# EAGLE library part HEADER-12X1 (library Controller)
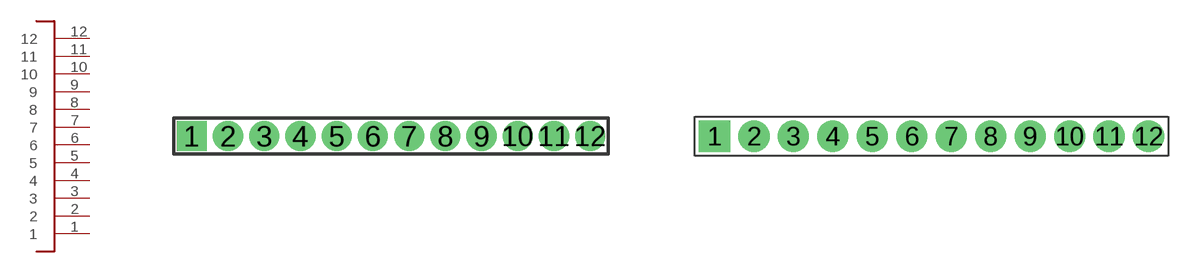
[diagram p15: symbol with the pads of HEADER-12X1-1.27; footprints HEADER-12X1-1.27, HEADER-12X1-2.54]

Designator prefix J

## HEADER-12X1-1.27  [HEADER-12X1-1.27]
1  1
2  2
3  3
4  4
5  5
6  6
7  7
8  8
9  9
10  10
11  11
12  12

## HEADER-12X1-2.54  [HEADER-12X1-2.54]
Pads as for HEADER-12X1-1.27

## HEADER-12X1-2.54-ROUND  [HEADER-12X1-2.54-ROUND]
Pads as for HEADER-12X1-1.27

## Footprint HEADER-12X1-1.27 (pad centres in mm)
5 pin 0.1" header
drill 0.55 square: 1 -6.985,0
drill 0.55: 2 -5.715,0; 3 -4.445,0; 4 -3.175,0; 5 -1.905,0; 6 -0.635,0; 7 0.635,0; 8 1.905,0; 9 3.175,0; 10 4.445,0; 11 5.715,0; 12 6.985,0

## Footprint HEADER-12X1-2.54 (pad centres in mm)
5 pin 0.1" header
drill 1.05 pad 2 square: 1 -13.97,0
drill 1.05 pad 2: 2 -11.43,0; 3 -8.89,0; 4 -6.35,0; 5 -3.81,0; 6 -1.27,0; 7 1.27,0; 8 3.81,0; 9 6.35,0; 10 8.89,0; 11 11.43,0; 12 13.97,0

## Footprint HEADER-12X1-2.54-ROUND (pad centres in mm)
5 pin 0.1" header
drill 1.05 pad 2: 1 -13.97,0; 2 -11.43,0; 3 -8.89,0; 4 -6.35,0; 5 -3.81,0; 6 -1.27,0; 7 1.27,0; 8 3.81,0; 9 6.35,0; 10 8.89,0; 11 11.43,0; 12 13.97,0